# Altium footprint library ESD_Protectors.PcbLib: 3 footprints
Each footprint in its own frame and in the unit in brackets; x right, y up, seen from the top. Pads: shape width x height; smd on the part's side, far side on the other; paste and mask are expansions set on the pad; w line width, h text height; cw(c..) or ccw(c..) is an arc to the next point about the centre after c.
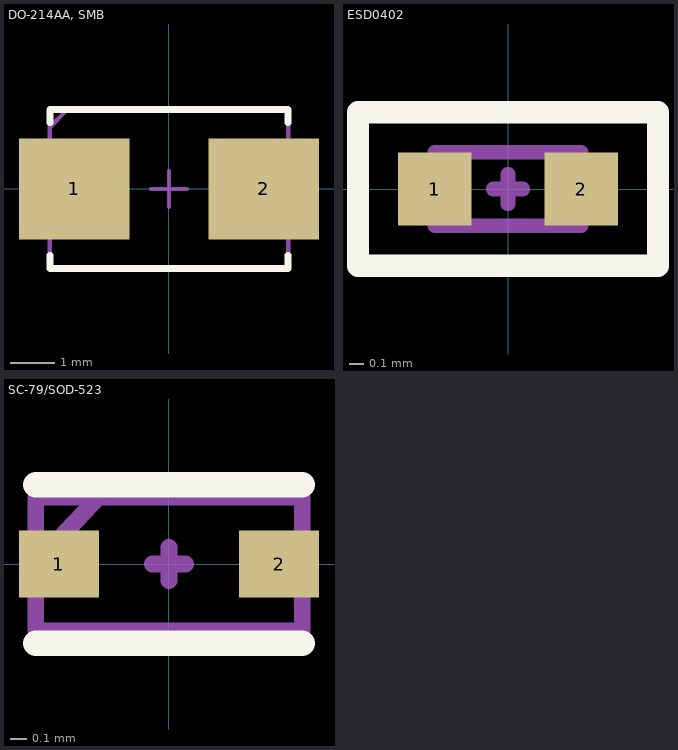
[diagram p0: the footprints below, top view; thin cyan lines are the x and y axes]

## DO-214AA, SMB [mm]
pads (2):
  rect 2.5x2.3 smd: 1(-2.15,0) 2(2.15,0)
Top Overlay:
  lines w0.153: -2.7,-1.5 -2.7,-1.8 2.7,-1.8 2.7,-1.5 ; -2.7,1.5 -2.7,1.8 2.7,1.8 2.7,1.5
  text "." at -3.347,1.603 h0.8
Top Assembly:
  lines w0.1: -2.7,1.4 -2.3,1.8 ; -2.7,-1.8 -2.7,1.8 2.7,1.8 2.7,-1.8 -2.7,-1.8
  text "'.Designator'" at -2.446,2.562 h1.52
Mechanical 15:
  lines w0.1: -0.4,0 0,0 ; 0,-0.4 0,0 ; 0,0.4 0,0 ; 0.4,0 0,0 ; -2.7,-1.8 -2.7,1.8 2.7,1.8 2.7,-1.8 -2.7,-1.8
3D body "User Library-DO-214AA SMB.STEP": height 2.3, standoff 0, extent -2.7,-1.8 2.7,1.8

## ESD0402 [mm]
pads (2):
  rect 0.5x0.5 smd: 1(-0.5,0) 2(0.5,0)
Top Overlay:
  lines w0.153: -1.025,-0.525 -1.025,0.525 1.025,0.525 1.025,-0.525 -1.025,-0.525
Top Assembly:
  lines w0.1: -0.5,-0.25 0.5,-0.25 0.5,0.25 -0.5,0.25 -0.5,-0.25
  text "'.Designator'" at -0.347,0.67 h0.8
Mechanical 15:
  lines w0.1: -0.1,0 0,0 ; 0,0.1 0,0 ; 0.1,0 0,0 ; 0,0 0,-0.1 0,0 ; -0.5,-0.25 0.5,-0.25 0.5,0.25 -0.5,0.25 -0.5,-0.25
3D body "User Library-d0402h025.STEP": height 0.25, standoff 0, extent -0.5,-0.25 0.5,0.25

## SC-79/SOD-523 [mm]
pads (2):
  rect 0.48x0.4 smd: 1(-0.66,0) 2(0.66,0)
Top Overlay:
  lines w0.153: -0.8,-0.476 0.8,-0.476 ; -0.8,0.476 0.8,0.476
  text "." at -1.371,-0.072 h0.8
Top Assembly:
  lines w0.1: -0.8,0 -0.425,0.4 ; -0.8,-0.4 -0.8,0.4 0.8,0.4 0.8,-0.4 -0.8,-0.4
  text "'.Designator'" at -0.647,0.82 h0.8
Mechanical 15:
  lines w0.1: -0.1,0 0,0 ; 0,0.1 0,0 ; 0.1,0 0,0 ; 0,0 0,-0.1 0,0 ; -0.8,-0.4 0.8,-0.4 0.8,0.4 -0.8,0.4 -0.8,-0.4
3D body "User Library-SOD523-1.STEP": height 0.7, standoff 0, extent -0.8,-0.399 0.8,0.399